# EAGLE library part W25Q128JV (library ds_ic_memory)
3V 128M-BIT SERIAL FLASH MEMORY WITH DUAL/QUAD SPI & QPI & DTR
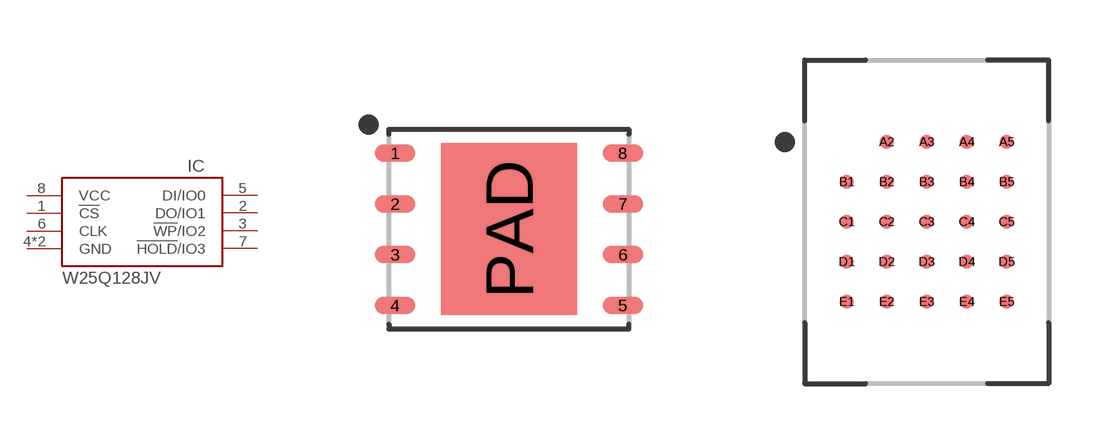
[diagram p10: symbol with the pads of SON127P600X500X75-8N; footprints SON127P600X500X75-8N, BGA25C100P5X5_800X600X120N]

Designator prefix IC

## W25Q128JVP (DATASHEET: https://www.nikom.biz/pdf/A089014.pdf?srsltid=AfmBOopZgx1G_qpdWEIfoO5Ne0YuvaGR9ub92ZA1x90R1kz9P6rrUXmf; DESCRIPTION: 128Mbit WSON-8-EP(5x6) NOR FLASH ROHS; HQ_PART: IC0150933; LCSC_PART: C190862; MANUFACTURER: Winbond; MPN: W25Q128JVPIQ; ROHS: YES; VALUE: W25Q128JVPIQ)  [SON127P600X500X75-8N]
1  !CS
2  DO/IO1
3  !WP!/IO2
4  GND  sup
5  DI/IO0
6  CLK
7  !HOLD!/IO3
8  VCC  sup
PAD  GND  sup

## W25Q128JVB  [BGA25C100P5X5_800X600X120N]
B2  CLK
B3  GND  sup
B4  VCC  sup
C2  !CS
C4  !WP!/IO2
D2  DO/IO1
D3  DI/IO0
D4  !HOLD!/IO3

## W25Q128JVC  [BGA24C100P4X6_800X600X120N]
Pads as for BGA25C100P5X5_800X600X120N

## Footprint SON127P600X500X75-8N (pad centres in mm)
8-SON (DFN), 1.27 mm pitch, 5.00 X 6.00 X 0.75 mm body 8-pin SON (DFN) package with 1.27 mm pitch with body size 5.00 X 6.00 X 0.75 mm
smd 1.012 x 0.432: 1 -2.85,1.905; 2 -2.85,0.635; 3 -2.85,-0.635; 4 -2.85,-1.905; 5 2.85,-1.905; 6 2.85,-0.635; 7 2.85,0.635; 8 2.85,1.905
smd 3.4 x 4.3: PAD 0,0

## Footprint BGA25C100P5X5_800X600X120N (pad centres in mm)
25-BGA, collapsing, 1.00 mm pitch, 8.00 X 6.00 X 1.20 mm body 25-pin collapsing BGA package with 1.00 mm col pitch and 1.00 mm row pitch with body size 8.00 X 6.00 X 1.20 mm
smd 0.35 x 0.35: A2 -1,2; A3 0,2; A4 1,2; A5 2,2; B1 -2,1; B2 -1,1; B3 0,1; B4 1,1; B5 2,1; C1 -2,0; C2 -1,0; C3 0,0; C4 1,0; C5 2,0; D1 -2,-1; D2 -1,-1; D3 0,-1; D4 1,-1; D5 2,-1; E1 -2,-2; E2 -1,-2; E3 0,-2; E4 1,-2; E5 2,-2

## Footprint BGA24C100P4X6_800X600X120N (pad centres in mm)
24-BGA, collapsing, 1.00 mm pitch, 8.00 X 6.00 X 1.20 mm body 24-pin collapsing BGA package with 1.00 mm col pitch and 1.00 mm row pitch with body size 8.00 X 6.00 X 1.20 mm
smd 0.35 x 0.35: A1 -1.5,2.5; A2 -0.5,2.5; A3 0.5,2.5; A4 1.5,2.5; B1 -1.5,1.5; B2 -0.5,1.5; B3 0.5,1.5; B4 1.5,1.5; C1 -1.5,0.5; C2 -0.5,0.5; C3 0.5,0.5; C4 1.5,0.5; D1 -1.5,-0.5; D2 -0.5,-0.5; D3 0.5,-0.5; D4 1.5,-0.5; E1 -1.5,-1.5; E2 -0.5,-1.5; E3 0.5,-1.5; E4 1.5,-1.5; F1 -1.5,-2.5; F2 -0.5,-2.5; F3 0.5,-2.5; F4 1.5,-2.5